# EAGLE library part LPC1758 (library WSNlib)
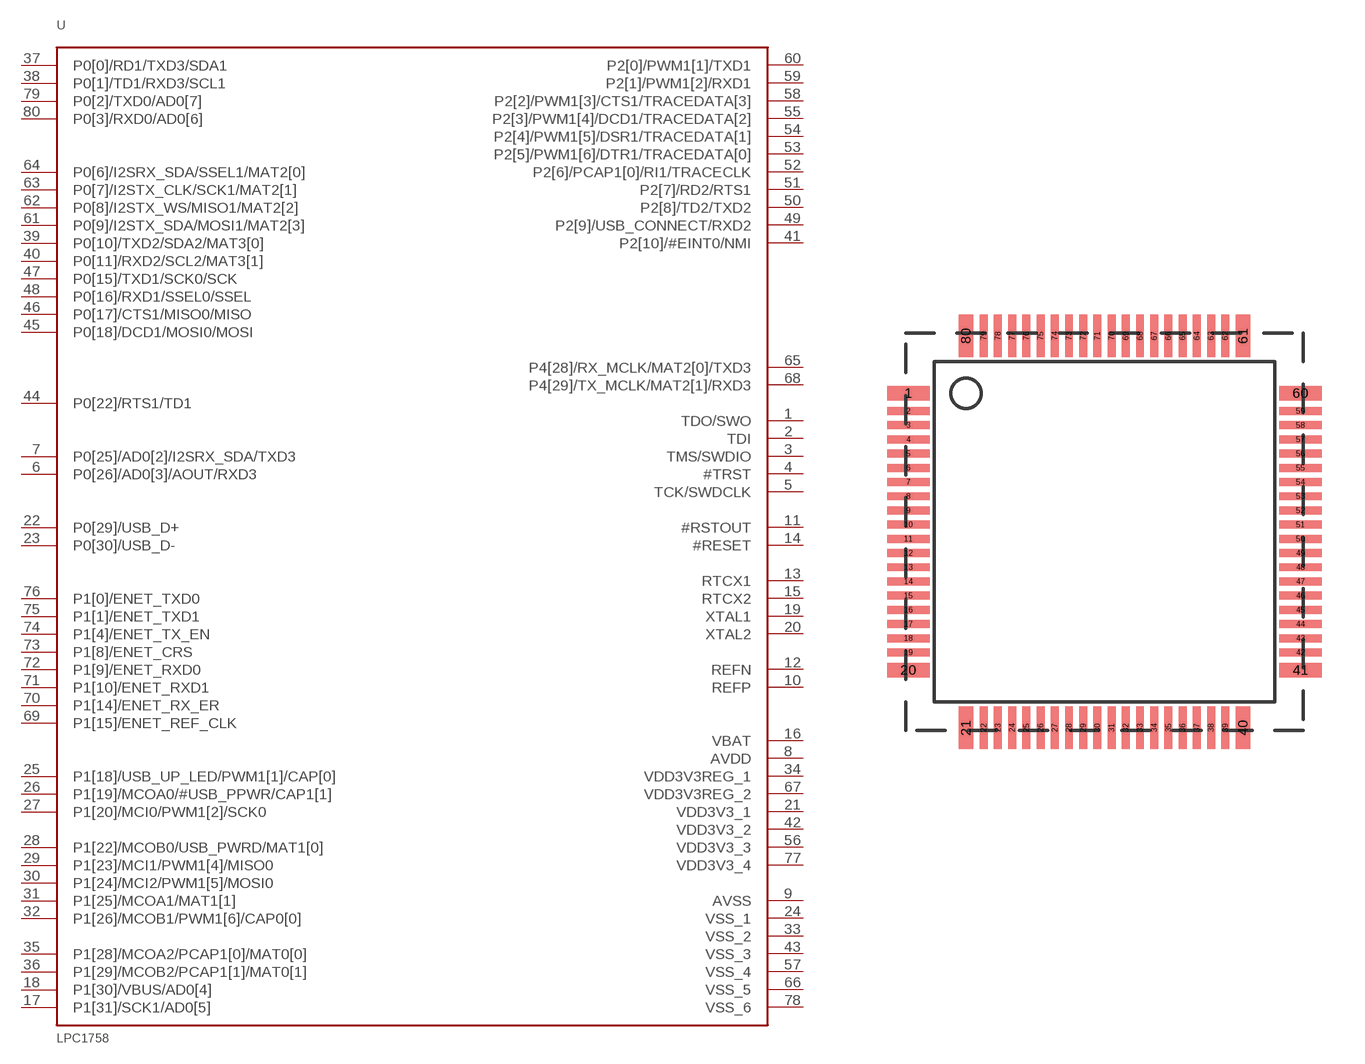
[diagram p4: symbol with the pads of LPC1758_LQFP80; footprint LPC1758_LQFP80]

Designator prefix U

## LPC1758  [LPC1758_LQFP80]
1  TDO/SWO
2  TDI
3  TMS/SWDIO
4  #TRST
5  TCK/SWDCLK
6  P0[26]/AD0[3]/AOUT/RXD3
7  P0[25]/AD0[2]/I2SRX_SDA/TXD3
8  AVDD
9  AVSS
10  REFP
11  #RSTOUT
12  REFN
13  RTCX1
14  #RESET
15  RTCX2
16  VBAT
17  P1[31]/SCK1/AD0[5]
18  P1[30]/VBUS/AD0[4]
19  XTAL1
20  XTAL2
21  VDD3V3_1
22  P0[29]/USB_D+
23  P0[30]/USB_D-
24  VSS_1
25  P1[18]/USB_UP_LED/PWM1[1]/CAP[0]
26  P1[19]/MCOA0/#USB_PPWR/CAP1[1]
27  P1[20]/MCI0/PWM1[2]/SCK0
28  P1[22]/MCOB0/USB_PWRD/MAT1[0]
29  P1[23]/MCI1/PWM1[4]/MISO0
30  P1[24]/MCI2/PWM1[5]/MOSI0
31  P1[25]/MCOA1/MAT1[1]
32  P1[26]/MCOB1/PWM1[6]/CAP0[0]
33  VSS_2
34  VDD3V3REG_1
35  P1[28]/MCOA2/PCAP1[0]/MAT0[0]
36  P1[29]/MCOB2/PCAP1[1]/MAT0[1]
37  P0[0]/RD1/TXD3/SDA1
38  P0[1]/TD1/RXD3/SCL1
39  P0[10]/TXD2/SDA2/MAT3[0]
40  P0[11]/RXD2/SCL2/MAT3[1]
41  P2[10]/#EINT0/NMI
42  VDD3V3_2
43  VSS_3
44  P0[22]/RTS1/TD1
45  P0[18]/DCD1/MOSI0/MOSI
46  P0[17]/CTS1/MISO0/MISO
47  P0[15]/TXD1/SCK0/SCK
48  P0[16]/RXD1/SSEL0/SSEL
49  P2[9]/USB_CONNECT/RXD2
50  P2[8]/TD2/TXD2
51  P2[7]/RD2/RTS1
52  P2[6]/PCAP1[0]/RI1/TRACECLK
53  P2[5]/PWM1[6]/DTR1/TRACEDATA[0]
54  P2[4]/PWM1[5]/DSR1/TRACEDATA[1]
55  P2[3]/PWM1[4]/DCD1/TRACEDATA[2]
56  VDD3V3_3
57  VSS_4
58  P2[2]/PWM1[3]/CTS1/TRACEDATA[3]
59  P2[1]/PWM1[2]/RXD1
60  P2[0]/PWM1[1]/TXD1
61  P0[9]/I2STX_SDA/MOSI1/MAT2[3]
62  P0[8]/I2STX_WS/MISO1/MAT2[2]
63  P0[7]/I2STX_CLK/SCK1/MAT2[1]
64  P0[6]/I2SRX_SDA/SSEL1/MAT2[0]
65  P4[28]/RX_MCLK/MAT2[0]/TXD3
66  VSS_5
67  VDD3V3REG_2
68  P4[29]/TX_MCLK/MAT2[1]/RXD3
69  P1[15]/ENET_REF_CLK
70  P1[14]/ENET_RX_ER
71  P1[10]/ENET_RXD1
72  P1[9]/ENET_RXD0
73  P1[8]/ENET_CRS
74  P1[4]/ENET_TX_EN
75  P1[1]/ENET_TXD1
76  P1[0]/ENET_TXD0
77  VDD3V3_4
78  VSS_6
79  P0[2]/TXD0/AD0[7]
80  P0[3]/RXD0/AD0[6]

## Footprint LPC1758_LQFP80 (pad centres in mm)
LQFP80 for LPC1758 12mmx12mm
smd 1.5 x 0.5: 1 -6.9,4.875; 20 -6.9,-4.875; 41 6.9,-4.875; 60 6.9,4.875
smd 1.5 x 0.28: 2 -6.9,4.25; 3 -6.9,3.75; 4 -6.9,3.25; 5 -6.9,2.75; 6 -6.9,2.25; 7 -6.9,1.75; 8 -6.9,1.25; 9 -6.9,0.75; 10 -6.9,0.25; 11 -6.9,-0.25; 12 -6.9,-0.75; 13 -6.9,-1.25; 14 -6.9,-1.75; 15 -6.9,-2.25; 16 -6.9,-2.75; 17 -6.9,-3.25; 18 -6.9,-3.75; 19 -6.9,-4.25; 42 6.9,-4.25; 43 6.9,-3.75; 44 6.9,-3.25; 45 6.9,-2.75; 46 6.9,-2.25; 47 6.9,-1.75; 48 6.9,-1.25; 49 6.9,-0.75; 50 6.9,-0.25; 51 6.9,0.25; 52 6.9,0.75; 53 6.9,1.25; 54 6.9,1.75; 55 6.9,2.25; 56 6.9,2.75; 57 6.9,3.25; 58 6.9,3.75; 59 6.9,4.25
smd 0.5 x 1.5: 21 -4.875,-6.9; 40 4.875,-6.9; 61 4.875,6.9; 80 -4.875,6.9
smd 0.28 x 1.5: 22 -4.25,-6.9; 23 -3.75,-6.9; 24 -3.25,-6.9; 25 -2.75,-6.9; 26 -2.25,-6.9; 27 -1.75,-6.9; 28 -1.25,-6.9; 29 -0.75,-6.9; 30 -0.25,-6.9; 31 0.25,-6.9; 32 0.75,-6.9; 33 1.25,-6.9; 34 1.75,-6.9; 35 2.25,-6.9; 36 2.75,-6.9; 37 3.25,-6.9; 38 3.75,-6.9; 39 4.25,-6.9; 62 4.25,6.9; 63 3.75,6.9; 64 3.25,6.9; 65 2.75,6.9; 66 2.25,6.9; 67 1.75,6.9; 68 1.25,6.9; 69 0.75,6.9; 70 0.25,6.9; 71 -0.25,6.9; 72 -0.75,6.9; 73 -1.25,6.9; 74 -1.75,6.9; 75 -2.25,6.9; 76 -2.75,6.9; 77 -3.25,6.9; 78 -3.75,6.9; 79 -4.25,6.9